# Altium schematic symbol library 687 3xx 124 422.SchLib: 17 symbols
Pins are listed as number, name and electrical type; pins without a type are passive.

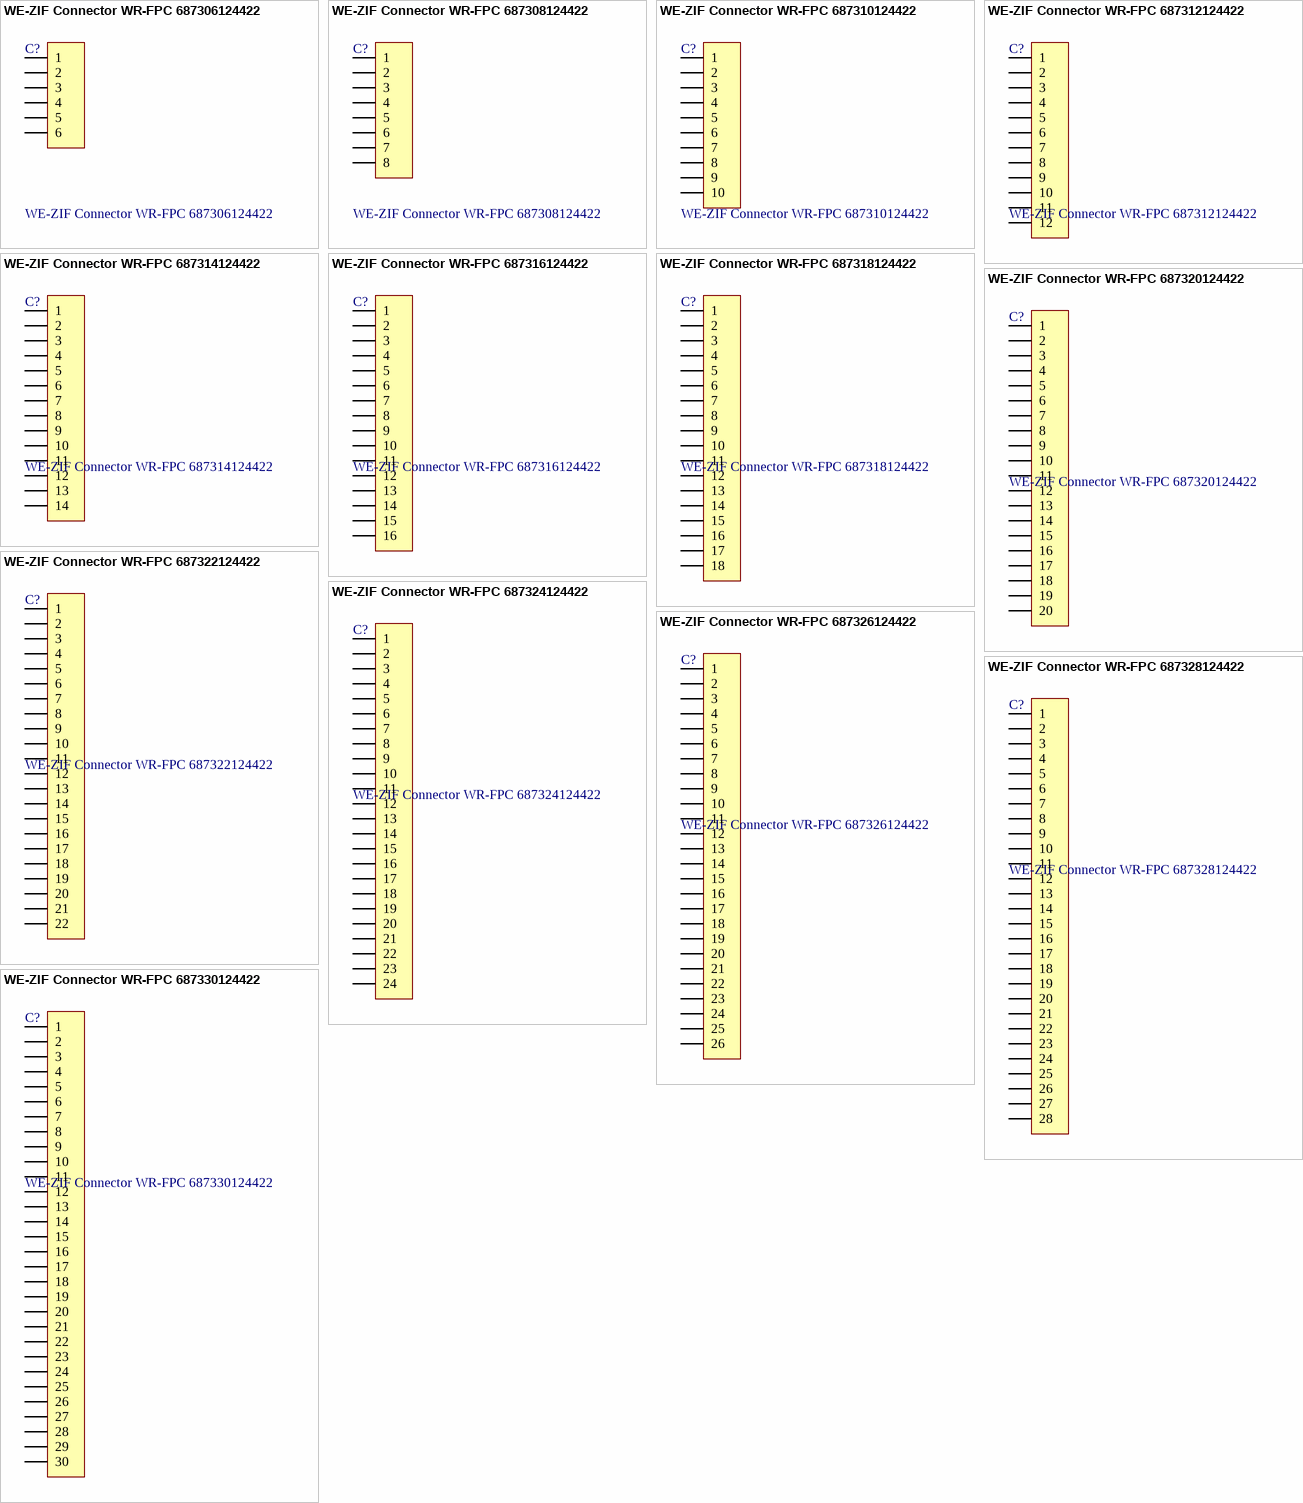
[diagram p0: symbols WE-ZIF Connector WR-FPC 687306124422 to WE-ZIF Connector WR-FPC 687330124422]

## WE-ZIF Connector WR-FPC 687306124422
designator C?
WR-FPC 0.50mm SMT ZIF Vertical Type A; Manufacturer: Würth Elektronik eiSos GmbH; ComponentLink1 Description: Manufacturer; ComponentLink2 Description: Datasheet; NoPins: 06; Created Date: 29 October 2013; partNo: 687306124422; ComponentLink1URL: http://www.we-online.com; ComponentLink2URL: http://katalog.we-online.de/em/datasheet/6873xx124422.pdf; Created by: Karrer Zheng
footprint 687306124422 (6 pins T&R with Cap)
pins: 1, 2, 3, 4, 5, 6

## WE-ZIF Connector WR-FPC 687308124422
designator C?
WR-FPC 0.50mm SMT ZIF Vertical Type A; Manufacturer: Würth Elektronik eiSos GmbH; ComponentLink1 Description: Manufacturer; ComponentLink2 Description: Datasheet; NoPins: 08; Created Date: 29 October 2013; partNo: 687308124422; ComponentLink1URL: http://www.we-online.com; ComponentLink2URL: http://katalog.we-online.de/em/datasheet/6873xx124422.pdf; Created by: Karrer Zheng
footprint 687308124422 (8 pins T&R with Cap)
pins: 1, 2, 3, 4, 5, 6, 7, 8

## WE-ZIF Connector WR-FPC 687310124422
designator C?
WR-FPC 0.50mm SMT ZIF Vertical Type A; Manufacturer: Würth Elektronik eiSos GmbH; ComponentLink1 Description: Manufacturer; ComponentLink2 Description: Datasheet; NoPins: 10; Created Date: 29 October 2013; partNo: 687310124422; ComponentLink1URL: http://www.we-online.com; ComponentLink2URL: http://katalog.we-online.de/em/datasheet/6873xx124422.pdf; Created by: Karrer Zheng
footprint 687310124422 (10 pins T&R with Cap)
pins: 1, 2, 3, 4, 5, 6, 7, 8, 9, 10

## WE-ZIF Connector WR-FPC 687312124422
designator C?
WR-FPC 0.50mm SMT ZIF Vertical Type A; Manufacturer: Würth Elektronik eiSos GmbH; ComponentLink1 Description: Manufacturer; ComponentLink2 Description: Datasheet; NoPins: 12; Created Date: 29 October 2013; partNo: 687312124422; ComponentLink1URL: http://www.we-online.com; ComponentLink2URL: http://katalog.we-online.de/em/datasheet/6873xx124422.pdf; Created by: Karrer Zheng
footprint 687312124422 (12 pins T&R with Cap)
pins: 1, 2, 3, 4, 5, 6, 7, 8, 9, 10, 11, 12

## WE-ZIF Connector WR-FPC 687314124422
designator C?
WR-FPC 0.50mm SMT ZIF Vertical Type A; Manufacturer: Würth Elektronik eiSos GmbH; ComponentLink1 Description: Manufacturer; ComponentLink2 Description: Datasheet; NoPins: 14; Created Date: 29 October 2013; partNo: 687314124422; ComponentLink1URL: http://www.we-online.com; ComponentLink2URL: http://katalog.we-online.de/em/datasheet/6873xx124422.pdf; Created by: Karrer Zheng
footprint 687314124422 (14 pins T&R with Cap)
pins: 1, 2, 3, 4, 5, 6, 7, 8, 9, 10, 11, 12, 13, 14

## WE-ZIF Connector WR-FPC 687316124422
designator C?
WR-FPC 0.50mm SMT ZIF Vertical Type A; Manufacturer: Würth Elektronik eiSos GmbH; ComponentLink1 Description: Manufacturer; ComponentLink2 Description: Datasheet; NoPins: 16; Created Date: 29 October 2013; partNo: 687316124422; ComponentLink1URL: http://www.we-online.com; ComponentLink2URL: http://katalog.we-online.de/em/datasheet/6873xx124422.pdf; Created by: Karrer Zheng
footprint 687316124422 (16 pins T&R with Cap)
pins: 1, 2, 3, 4, 5, 6, 7, 8, 9, 10, 11, 12, 13, 14, 15, 16

## WE-ZIF Connector WR-FPC 687318124422
designator C?
WR-FPC 0.50mm SMT ZIF Vertical Type A; Manufacturer: Würth Elektronik eiSos GmbH; ComponentLink1 Description: Manufacturer; ComponentLink2 Description: Datasheet; NoPins: 18; Created Date: 29 October 2013; partNo: 687318124422; ComponentLink1URL: http://www.we-online.com; ComponentLink2URL: http://katalog.we-online.de/em/datasheet/6873xx124422.pdf; Created by: Karrer Zheng
footprint 687318124422 (18 pins T&R with Cap)
pins: 1, 2, 3, 4, 5, 6, 7, 8, 9, 10, 11, 12, 13, 14, 15, 16, 17, 18

## WE-ZIF Connector WR-FPC 687320124422
designator C?
WR-FPC 0.50mm SMT ZIF Vertical Type A; Manufacturer: Würth Elektronik eiSos GmbH; ComponentLink1 Description: Manufacturer; ComponentLink2 Description: Datasheet; NoPins: 20; Created Date: 29 October 2013; partNo: 687320124422; ComponentLink1URL: http://www.we-online.com; ComponentLink2URL: http://katalog.we-online.de/em/datasheet/6873xx124422.pdf; Created by: Karrer Zheng
footprint 687320124422 (20 pins T&R with Cap)
pins: 1, 2, 3, 4, 5, 6, 7, 8, 9, 10, 11, 12, 13, 14, 15, 16, 17, 18, 19, 20

## WE-ZIF Connector WR-FPC 687322124422
designator C?
WR-FPC 0.50mm SMT ZIF Vertical Type A; Manufacturer: Würth Elektronik eiSos GmbH; ComponentLink1 Description: Manufacturer; ComponentLink2 Description: Datasheet; NoPins: 22; Created Date: 29 October 2013; partNo: 687322124422; ComponentLink1URL: http://www.we-online.com; ComponentLink2URL: http://katalog.we-online.de/em/datasheet/6873xx124422.pdf; Created by: Karrer Zheng
footprint 687322124422 (22 pins T&R with Cap)
pins: 1, 2, 3, 4, 5, 6, 7, 8, 9, 10, 11, 12, 13, 14, 15, 16, 17, 18, 19, 20, 21, 22

## WE-ZIF Connector WR-FPC 687324124422
designator C?
WR-FPC 0.50mm SMT ZIF Vertical Type A; Manufacturer: Würth Elektronik eiSos GmbH; ComponentLink1 Description: Manufacturer; ComponentLink2 Description: Datasheet; NoPins: 24; Created Date: 29 October 2013; partNo: 687324124422; ComponentLink1URL: http://www.we-online.com; ComponentLink2URL: http://katalog.we-online.de/em/datasheet/6873xx124422.pdf; Created by: Karrer Zheng
footprint 687324124422 (24 pins T&R with Cap)
pins: 1, 2, 3, 4, 5, 6, 7, 8, 9, 10, 11, 12, 13, 14, 15, 16, 17, 18, 19, 20, 21, 22, 23, 24

## WE-ZIF Connector WR-FPC 687326124422
designator C?
WR-FPC 0.50mm SMT ZIF Vertical Type A; Manufacturer: Würth Elektronik eiSos GmbH; ComponentLink1 Description: Manufacturer; ComponentLink2 Description: Datasheet; NoPins: 26; Created Date: 29 October 2013; partNo: 687326124422; ComponentLink1URL: http://www.we-online.com; ComponentLink2URL: http://katalog.we-online.de/em/datasheet/6873xx124422.pdf; Created by: Karrer Zheng
footprint 687326124422 (26 pins T&R with Cap)
pins: 1, 2, 3, 4, 5, 6, 7, 8, 9, 10, 11, 12, 13, 14, 15, 16, 17, 18, 19, 20, 21, 22, 23, 24, 25, 26

## WE-ZIF Connector WR-FPC 687328124422
designator C?
WR-FPC 0.50mm SMT ZIF Vertical Type A; Manufacturer: Würth Elektronik eiSos GmbH; ComponentLink1 Description: Manufacturer; ComponentLink2 Description: Datasheet; NoPins: 28; Created Date: 29 October 2013; partNo: 687328124422; ComponentLink1URL: http://www.we-online.com; ComponentLink2URL: http://katalog.we-online.de/em/datasheet/6873xx124422.pdf; Created by: Karrer Zheng
footprint 687328124422 (28 pins T&R with Cap)
pins: 1, 2, 3, 4, 5, 6, 7, 8, 9, 10, 11, 12, 13, 14, 15, 16, 17, 18, 19, 20, 21, 22, 23, 24, 25, 26, 27, 28

## WE-ZIF Connector WR-FPC 687330124422
designator C?
WR-FPC 0.50mm SMT ZIF Vertical Type A; Manufacturer: Würth Elektronik eiSos GmbH; ComponentLink1 Description: Manufacturer; ComponentLink2 Description: Datasheet; NoPins: 30; Created Date: 29 October 2013; partNo: 687330124422; ComponentLink1URL: http://www.we-online.com; ComponentLink2URL: http://katalog.we-online.de/em/datasheet/6873xx124422.pdf; Created by: Karrer Zheng
footprint 687330124422 (30 pins T&R with Cap)
pins: 1, 2, 3, 4, 5, 6, 7, 8, 9, 10, 11, 12, 13, 14, 15, 16, 17, 18, 19, 20, 21, 22, 23, 24, 25, 26, 27, 28, 29, 30

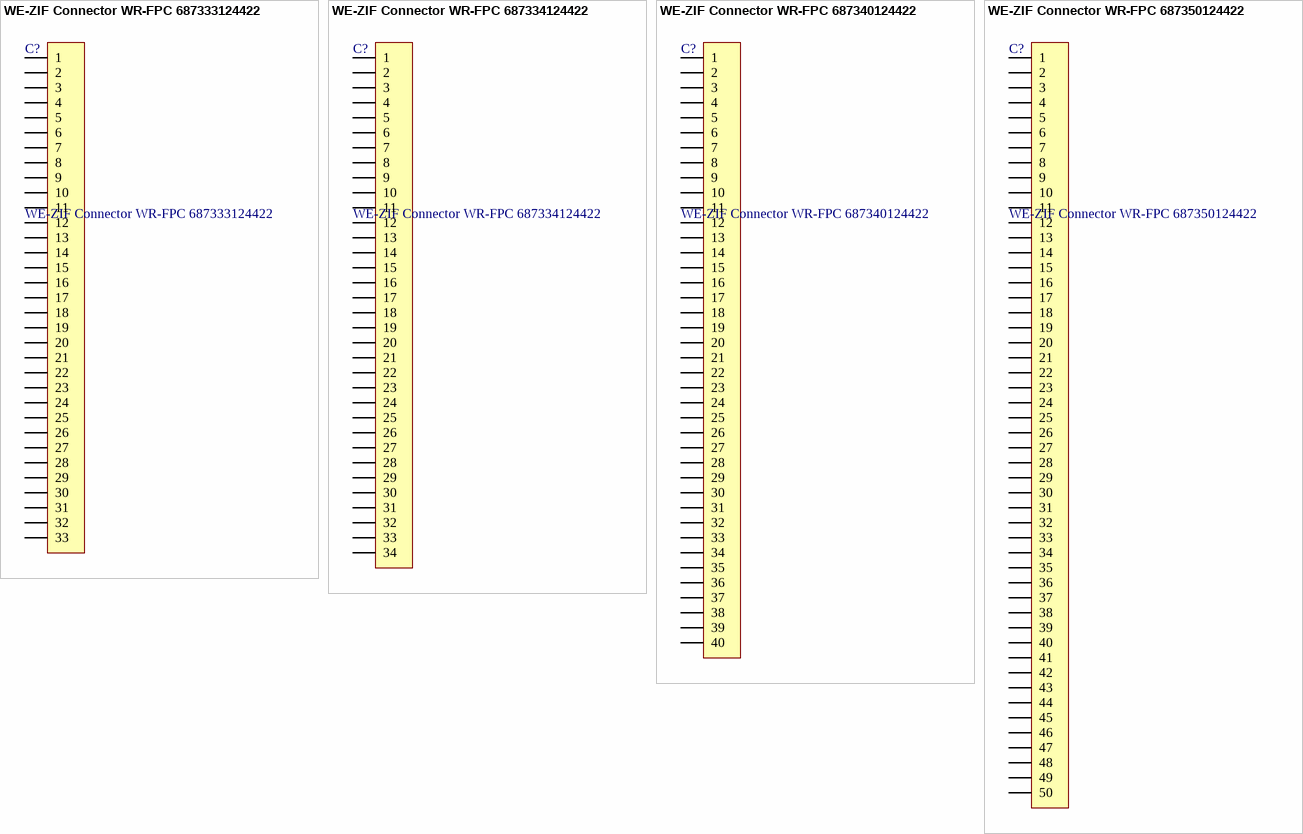
[diagram p1: symbols WE-ZIF Connector WR-FPC 687333124422 to WE-ZIF Connector WR-FPC 687350124422]

## WE-ZIF Connector WR-FPC 687333124422
designator C?
WR-FPC 0.50mm SMT ZIF Vertical Type A; Manufacturer: Würth Elektronik eiSos GmbH; ComponentLink1 Description: Manufacturer; ComponentLink2 Description: Datasheet; NoPins: 33; Created Date: 29 October 2013; partNo: 687333124422; ComponentLink1URL: http://www.we-online.com; ComponentLink2URL: http://katalog.we-online.de/em/datasheet/6873xx124422.pdf; Created by: Karrer Zheng
footprint 687333124422 (33 pins T&R with Cap)
pins: 1, 2, 3, 4, 5, 6, 7, 8, 9, 10, 11, 12, 13, 14, 15, 16, 17, 18, 19, 20, 21, 22, 23, 24, 25, 26, 27, 28, 29, 30, 31, 32, 33

## WE-ZIF Connector WR-FPC 687334124422
designator C?
WR-FPC 0.50mm SMT ZIF Vertical Type A; Manufacturer: Würth Elektronik eiSos GmbH; ComponentLink1 Description: Manufacturer; ComponentLink2 Description: Datasheet; NoPins: 34; Created Date: 29 October 2013; partNo: 687334124422; ComponentLink1URL: http://www.we-online.com; ComponentLink2URL: http://katalog.we-online.de/em/datasheet/6873xx124422.pdf; Created by: Karrer Zheng
footprint 687334124422 (34 pins T&R with Cap)
pins: 1, 2, 3, 4, 5, 6, 7, 8, 9, 10, 11, 12, 13, 14, 15, 16, 17, 18, 19, 20, 21, 22, 23, 24, 25, 26, 27, 28, 29, 30, 31, 32, 33, 34

## WE-ZIF Connector WR-FPC 687340124422
designator C?
WR-FPC 0.50mm SMT ZIF Vertical Type A; Manufacturer: Würth Elektronik eiSos GmbH; ComponentLink1 Description: Manufacturer; ComponentLink2 Description: Datasheet; NoPins: 40; Created Date: 29 October 2013; partNo: 687340124422; ComponentLink1URL: http://www.we-online.com; ComponentLink2URL: http://katalog.we-online.de/em/datasheet/6873xx124422.pdf; Created by: Karrer Zheng
footprint 687340124422 (40 pins T&R with Cap)
pins: 1, 2, 3, 4, 5, 6, 7, 8, 9, 10, 11, 12, 13, 14, 15, 16, 17, 18, 19, 20, 21, 22, 23, 24, 25, 26, 27, 28, 29, 30, 31, 32, 33, 34, 35, 36, 37, 38, 39, 40

## WE-ZIF Connector WR-FPC 687350124422
designator C?
WR-FPC 0.50mm SMT ZIF Vertical Type A; Manufacturer: Würth Elektronik eiSos GmbH; ComponentLink1 Description: Manufacturer; ComponentLink2 Description: Datasheet; NoPins: 50; Created Date: 29 October 2013; partNo: 687350124422; ComponentLink1URL: http://www.we-online.com; ComponentLink2URL: http://katalog.we-online.de/em/datasheet/6873xx124422.pdf; Created by: Karrer Zheng
footprint 687350124422 (50 pins T&R with Cap)
pins: 1, 2, 3, 4, 5, 6, 7, 8, 9, 10, 11, 12, 13, 14, 15, 16, 17, 18, 19, 20, 21, 22, 23, 24, 25, 26, 27, 28, 29, 30, 31, 32, 33, 34, 35, 36, 37, 38, 39, 40, 41, 42, 43, 44, 45, 46, 47, 48, 49, 50